# Altium footprint library 61301611821.PcbLib: 1 footprints
Each footprint in its own frame and in the unit in brackets; x right, y up, seen from the top. Pads: shape width x height; smd on the part's side, far side on the other; paste and mask are expansions set on the pad; w line width, h text height; cw(c..) or ccw(c..) is an arc to the next point about the centre after c.
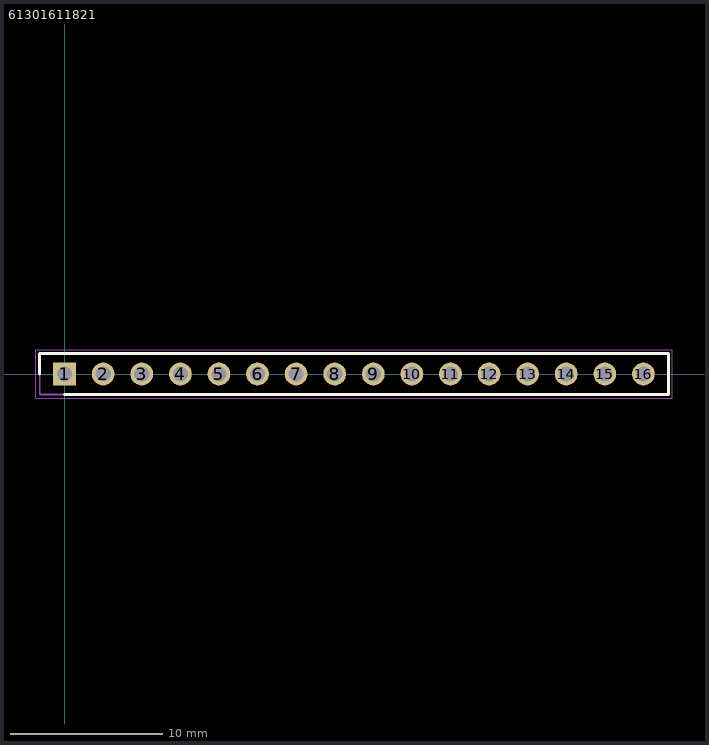
[diagram p0: the footprint, top view; thin cyan lines are the x and y axes]

## 61301611821 [mm]
pads (16):
  rect 1.5x1.5 hole 1: 1(0,0)
  round 1.5 hole 1: 2(2.54,0) 3(5.08,0) 4(7.62,0) 5(10.16,0) 6(12.7,0) 7(15.24,0) 8(17.78,0) 9(20.32,0) 10(22.86,0) 11(25.4,0) 12(27.94,0) 13(30.48,0) 14(33.02,0) 15(35.56,0) 16(38.1,0)
Top Overlay:
  lines w0.2: -1.645,0 -1.645,1.35 39.745,1.35 39.745,-1.35 0,-1.35
Mechanical 15:
  lines w0.1: -1.645,-1.35 -1.645,1.35 39.745,1.35 39.745,-1.35 -1.645,-1.35
Mechanical 20:
  lines w0.05: -1.895,-1.6 -1.895,1.6 39.995,1.6 39.995,-1.6 -1.895,-1.6